# Altium integrated library Wurth_Elektronik_Passive_rev16a.IntLib: 1143 symbols (part 23 of 28)
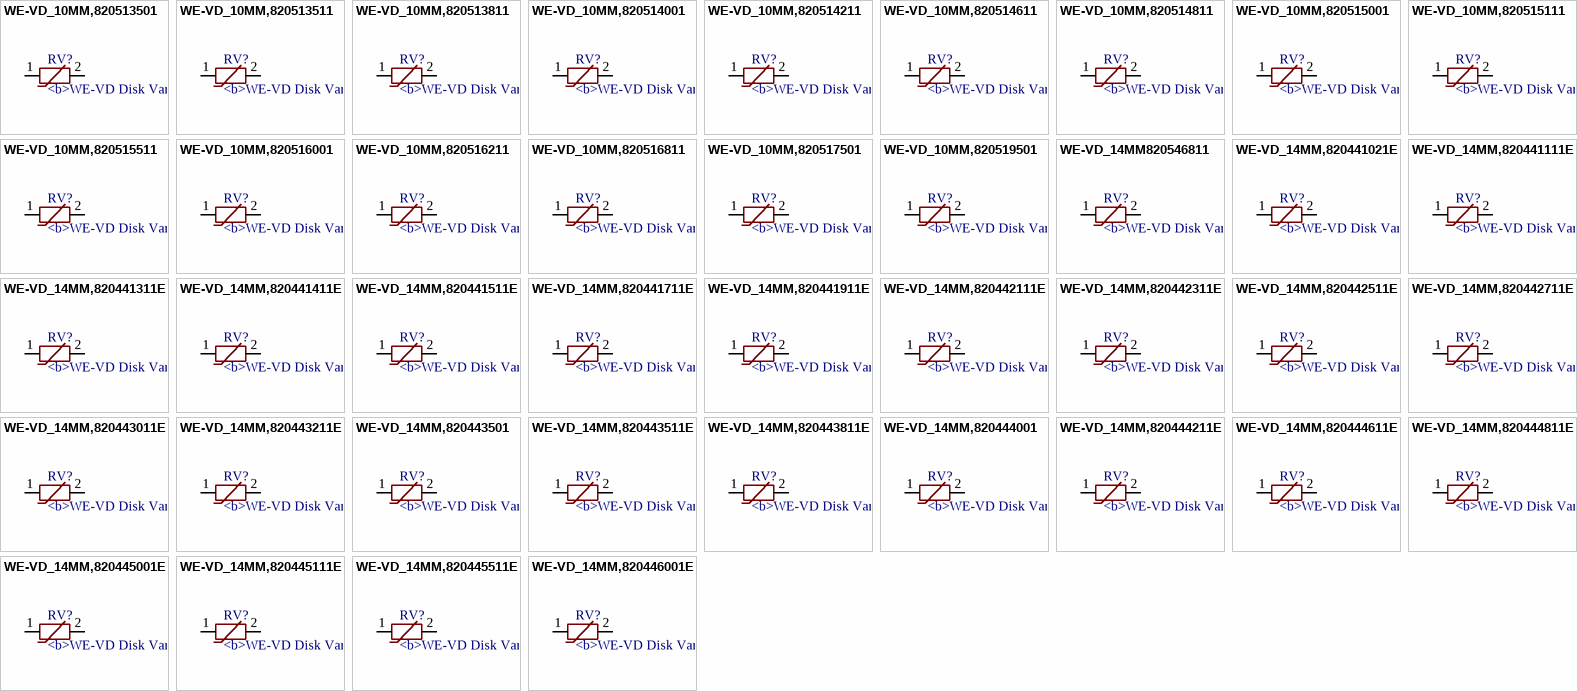
[diagram p80: symbols WE-VD_10MM,820513501 to WE-VD_14MM,820446001E]

## WE-VD_14MM,820441021E
designator RV?, comment <b>WE-VD Disk Varistor / <br> / <br> / <br><b>Characteristics / <br> / <br></b></b> Low clamping voltage / <br> / <br> After a surge impulse the varistor works immediately in normal mode so there is no slip current / <br> / <br> Excellent absorption at surge impulses / <br> / <br> Operating temperature: –40 ºC to +85 ºC for types up to 95 VRMS –40 ºC to +125 ºC for types from 115 VRMS / <br> / <br> Response time < 25 ns / <br> / <br> UL1449 3rd Edition, CSA and VDE approved UL: File E332875 CSA: File 224856 VDE: File 40016986 and 40016998 IEC: 60950-1: 2005 Annex Q from ∅ 10 mm / <br> / <br> / <br><b> Applications / <br> / <br></b> 12–48 VDC distribution / <br> / <br> 110–400 V power supply / <br> / <br> Leakage of voltage peaks / <br> / <br> Surge protection in accordance with EN 61000-4-5 / <br> / <br> / <br> / <br><a href="http://katalog.we-online.de/media/images/eisos/VarVD_pf2.jpg" title="Enlarge picture"> / <img src="http://katalog.we-online.de/media/images/eisos/VarVD_pf2.jpg" width="320"></a><p> / Details see: <a href="http://katalog.we-online.de/en/pbs/WE-VD?">http://katalog.we-online.de/en/pbs/WE-VD?</a><p> / Updated  by  Dan Xu 2014-07-11<br> / 2014 (C) Wurth Elektronik
MANUFACTURER: Würth Elektronik eiSos GmbH; CREATED-BY: Christin Zierenner; COMPANY-URL: http://www.we-online.de; CREATED-DATE: May 2012; DATASHEET-URL: http://katalog.we-online.de/kataloge/eisos/index.php?language=en&pf=WE-VD
footprint WE-VD_14MM-10.2
pins: 1, 2

## WE-VD_14MM,820441111E
designator RV?, comment <b>WE-VD Disk Varistor / <br> / <br> / <br><b>Characteristics / <br> / <br></b></b> Low clamping voltage / <br> / <br> After a surge impulse the varistor works immediately in normal mode so there is no slip current / <br> / <br> Excellent absorption at surge impulses / <br> / <br> Operating temperature: –40 ºC to +85 ºC for types up to 95 VRMS –40 ºC to +125 ºC for types from 115 VRMS / <br> / <br> Response time < 25 ns / <br> / <br> UL1449 3rd Edition, CSA and VDE approved UL: File E332875 CSA: File 224856 VDE: File 40016986 and 40016998 IEC: 60950-1: 2005 Annex Q from ∅ 10 mm / <br> / <br> / <br><b> Applications / <br> / <br></b> 12–48 VDC distribution / <br> / <br> 110–400 V power supply / <br> / <br> Leakage of voltage peaks / <br> / <br> Surge protection in accordance with EN 61000-4-5 / <br> / <br> / <br> / <br><a href="http://katalog.we-online.de/media/images/eisos/VarVD_pf2.jpg" title="Enlarge picture"> / <img src="http://katalog.we-online.de/media/images/eisos/VarVD_pf2.jpg" width="320"></a><p> / Details see: <a href="http://katalog.we-online.de/en/pbs/WE-VD?">http://katalog.we-online.de/en/pbs/WE-VD?</a><p> / Updated  by  Dan Xu 2014-07-11<br> / 2014 (C) Wurth Elektronik
MANUFACTURER: Würth Elektronik eiSos GmbH; CREATED-BY: Christin Zierenner; COMPANY-URL: http://www.we-online.de; CREATED-DATE: May 2012; DATASHEET-URL: http://katalog.we-online.de/kataloge/eisos/index.php?language=en&pf=WE-VD
footprint WE-VD_14MM-DIA
pins: 1, 2

## WE-VD_14MM,820441311E
designator RV?, comment <b>WE-VD Disk Varistor / <br> / <br> / <br><b>Characteristics / <br> / <br></b></b> Low clamping voltage / <br> / <br> After a surge impulse the varistor works immediately in normal mode so there is no slip current / <br> / <br> Excellent absorption at surge impulses / <br> / <br> Operating temperature: –40 ºC to +85 ºC for types up to 95 VRMS –40 ºC to +125 ºC for types from 115 VRMS / <br> / <br> Response time < 25 ns / <br> / <br> UL1449 3rd Edition, CSA and VDE approved UL: File E332875 CSA: File 224856 VDE: File 40016986 and 40016998 IEC: 60950-1: 2005 Annex Q from ∅ 10 mm / <br> / <br> / <br><b> Applications / <br> / <br></b> 12–48 VDC distribution / <br> / <br> 110–400 V power supply / <br> / <br> Leakage of voltage peaks / <br> / <br> Surge protection in accordance with EN 61000-4-5 / <br> / <br> / <br> / <br><a href="http://katalog.we-online.de/media/images/eisos/VarVD_pf2.jpg" title="Enlarge picture"> / <img src="http://katalog.we-online.de/media/images/eisos/VarVD_pf2.jpg" width="320"></a><p> / Details see: <a href="http://katalog.we-online.de/en/pbs/WE-VD?">http://katalog.we-online.de/en/pbs/WE-VD?</a><p> / Updated  by  Dan Xu 2014-07-11<br> / 2014 (C) Wurth Elektronik
MANUFACTURER: Würth Elektronik eiSos GmbH; CREATED-BY: Christin Zierenner; COMPANY-URL: http://www.we-online.de; CREATED-DATE: May 2012; DATASHEET-URL: http://katalog.we-online.de/kataloge/eisos/media/pdf/820441311E.pdf
footprint WE-VD_14MM-DIA
pins: 1, 2

## WE-VD_14MM,820441411E
designator RV?, comment <b>WE-VD Disk Varistor / <br> / <br> / <br><b>Characteristics / <br> / <br></b></b> Low clamping voltage / <br> / <br> After a surge impulse the varistor works immediately in normal mode so there is no slip current / <br> / <br> Excellent absorption at surge impulses / <br> / <br> Operating temperature: –40 ºC to +85 ºC for types up to 95 VRMS –40 ºC to +125 ºC for types from 115 VRMS / <br> / <br> Response time < 25 ns / <br> / <br> UL1449 3rd Edition, CSA and VDE approved UL: File E332875 CSA: File 224856 VDE: File 40016986 and 40016998 IEC: 60950-1: 2005 Annex Q from ∅ 10 mm / <br> / <br> / <br><b> Applications / <br> / <br></b> 12–48 VDC distribution / <br> / <br> 110–400 V power supply / <br> / <br> Leakage of voltage peaks / <br> / <br> Surge protection in accordance with EN 61000-4-5 / <br> / <br> / <br> / <br><a href="http://katalog.we-online.de/media/images/eisos/VarVD_pf2.jpg" title="Enlarge picture"> / <img src="http://katalog.we-online.de/media/images/eisos/VarVD_pf2.jpg" width="320"></a><p> / Details see: <a href="http://katalog.we-online.de/en/pbs/WE-VD?">http://katalog.we-online.de/en/pbs/WE-VD?</a><p> / Updated  by  Dan Xu 2014-07-11<br> / 2014 (C) Wurth Elektronik
MANUFACTURER: Würth Elektronik eiSos GmbH; CREATED-BY: Christin Zierenner; COMPANY-URL: http://www.we-online.de; CREATED-DATE: May 2012; DATASHEET-URL: http://katalog.we-online.de/kataloge/eisos/index.php?language=en&pf=WE-VD
footprint WE-VD_14MM-DIA
pins: 1, 2

## WE-VD_14MM,820441511E
designator RV?, comment <b>WE-VD Disk Varistor / <br> / <br> / <br><b>Characteristics / <br> / <br></b></b> Low clamping voltage / <br> / <br> After a surge impulse the varistor works immediately in normal mode so there is no slip current / <br> / <br> Excellent absorption at surge impulses / <br> / <br> Operating temperature: –40 ºC to +85 ºC for types up to 95 VRMS –40 ºC to +125 ºC for types from 115 VRMS / <br> / <br> Response time < 25 ns / <br> / <br> UL1449 3rd Edition, CSA and VDE approved UL: File E332875 CSA: File 224856 VDE: File 40016986 and 40016998 IEC: 60950-1: 2005 Annex Q from ∅ 10 mm / <br> / <br> / <br><b> Applications / <br> / <br></b> 12–48 VDC distribution / <br> / <br> 110–400 V power supply / <br> / <br> Leakage of voltage peaks / <br> / <br> Surge protection in accordance with EN 61000-4-5 / <br> / <br> / <br> / <br><a href="http://katalog.we-online.de/media/images/eisos/VarVD_pf2.jpg" title="Enlarge picture"> / <img src="http://katalog.we-online.de/media/images/eisos/VarVD_pf2.jpg" width="320"></a><p> / Details see: <a href="http://katalog.we-online.de/en/pbs/WE-VD?">http://katalog.we-online.de/en/pbs/WE-VD?</a><p> / Updated  by  Dan Xu 2014-07-11<br> / 2014 (C) Wurth Elektronik
MANUFACTURER: Würth Elektronik eiSos GmbH; CREATED-BY: Christin Zierenner; COMPANY-URL: http://www.we-online.de; CREATED-DATE: May 2012; DATASHEET-URL: http://katalog.we-online.de/kataloge/eisos/index.php?language=en&pf=WE-VD
footprint WE-VD_14MM-DIA
pins: 1, 2

## WE-VD_14MM,820441711E
designator RV?, comment <b>WE-VD Disk Varistor / <br> / <br> / <br><b>Characteristics / <br> / <br></b></b> Low clamping voltage / <br> / <br> After a surge impulse the varistor works immediately in normal mode so there is no slip current / <br> / <br> Excellent absorption at surge impulses / <br> / <br> Operating temperature: –40 ºC to +85 ºC for types up to 95 VRMS –40 ºC to +125 ºC for types from 115 VRMS / <br> / <br> Response time < 25 ns / <br> / <br> UL1449 3rd Edition, CSA and VDE approved UL: File E332875 CSA: File 224856 VDE: File 40016986 and 40016998 IEC: 60950-1: 2005 Annex Q from ∅ 10 mm / <br> / <br> / <br><b> Applications / <br> / <br></b> 12–48 VDC distribution / <br> / <br> 110–400 V power supply / <br> / <br> Leakage of voltage peaks / <br> / <br> Surge protection in accordance with EN 61000-4-5 / <br> / <br> / <br> / <br><a href="http://katalog.we-online.de/media/images/eisos/VarVD_pf2.jpg" title="Enlarge picture"> / <img src="http://katalog.we-online.de/media/images/eisos/VarVD_pf2.jpg" width="320"></a><p> / Details see: <a href="http://katalog.we-online.de/en/pbs/WE-VD?">http://katalog.we-online.de/en/pbs/WE-VD?</a><p> / Updated  by  Dan Xu 2014-07-11<br> / 2014 (C) Wurth Elektronik
MANUFACTURER: Würth Elektronik eiSos GmbH; CREATED-BY: Christin Zierenner; COMPANY-URL: http://www.we-online.de; CREATED-DATE: May 2012; DATASHEET-URL: http://katalog.we-online.de/kataloge/eisos/index.php?language=en&pf=WE-VD
footprint WE-VD_14MM-DIA
pins: 1, 2

## WE-VD_14MM,820441911E
designator RV?, comment <b>WE-VD Disk Varistor / <br> / <br> / <br><b>Characteristics / <br> / <br></b></b> Low clamping voltage / <br> / <br> After a surge impulse the varistor works immediately in normal mode so there is no slip current / <br> / <br> Excellent absorption at surge impulses / <br> / <br> Operating temperature: –40 ºC to +85 ºC for types up to 95 VRMS –40 ºC to +125 ºC for types from 115 VRMS / <br> / <br> Response time < 25 ns / <br> / <br> UL1449 3rd Edition, CSA and VDE approved UL: File E332875 CSA: File 224856 VDE: File 40016986 and 40016998 IEC: 60950-1: 2005 Annex Q from ∅ 10 mm / <br> / <br> / <br><b> Applications / <br> / <br></b> 12–48 VDC distribution / <br> / <br> 110–400 V power supply / <br> / <br> Leakage of voltage peaks / <br> / <br> Surge protection in accordance with EN 61000-4-5 / <br> / <br> / <br> / <br><a href="http://katalog.we-online.de/media/images/eisos/VarVD_pf2.jpg" title="Enlarge picture"> / <img src="http://katalog.we-online.de/media/images/eisos/VarVD_pf2.jpg" width="320"></a><p> / Details see: <a href="http://katalog.we-online.de/en/pbs/WE-VD?">http://katalog.we-online.de/en/pbs/WE-VD?</a><p> / Updated  by  Dan Xu 2014-07-11<br> / 2014 (C) Wurth Elektronik
MANUFACTURER: Würth Elektronik eiSos GmbH; CREATED-BY: Christin Zierenner; COMPANY-URL: http://www.we-online.de; CREATED-DATE: May 2012; DATASHEET-URL: http://katalog.we-online.de/kataloge/eisos/index.php?language=en&pf=WE-VD
footprint WE-VD_14MM-DIA
pins: 1, 2

## WE-VD_14MM,820442111E
designator RV?, comment <b>WE-VD Disk Varistor / <br> / <br> / <br><b>Characteristics / <br> / <br></b></b> Low clamping voltage / <br> / <br> After a surge impulse the varistor works immediately in normal mode so there is no slip current / <br> / <br> Excellent absorption at surge impulses / <br> / <br> Operating temperature: –40 ºC to +85 ºC for types up to 95 VRMS –40 ºC to +125 ºC for types from 115 VRMS / <br> / <br> Response time < 25 ns / <br> / <br> UL1449 3rd Edition, CSA and VDE approved UL: File E332875 CSA: File 224856 VDE: File 40016986 and 40016998 IEC: 60950-1: 2005 Annex Q from ∅ 10 mm / <br> / <br> / <br><b> Applications / <br> / <br></b> 12–48 VDC distribution / <br> / <br> 110–400 V power supply / <br> / <br> Leakage of voltage peaks / <br> / <br> Surge protection in accordance with EN 61000-4-5 / <br> / <br> / <br> / <br><a href="http://katalog.we-online.de/media/images/eisos/VarVD_pf2.jpg" title="Enlarge picture"> / <img src="http://katalog.we-online.de/media/images/eisos/VarVD_pf2.jpg" width="320"></a><p> / Details see: <a href="http://katalog.we-online.de/en/pbs/WE-VD?">http://katalog.we-online.de/en/pbs/WE-VD?</a><p> / Updated  by  Dan Xu 2014-07-11<br> / 2014 (C) Wurth Elektronik
MANUFACTURER: Würth Elektronik eiSos GmbH; CREATED-BY: Christin Zierenner; COMPANY-URL: http://www.we-online.de; CREATED-DATE: May 2012; DATASHEET-URL: http://katalog.we-online.de/kataloge/eisos/index.php?language=en&pf=WE-VD
footprint WE-VD_14MM-DIA
pins: 1, 2

## WE-VD_14MM,820442311E
designator RV?, comment <b>WE-VD Disk Varistor / <br> / <br> / <br><b>Characteristics / <br> / <br></b></b> Low clamping voltage / <br> / <br> After a surge impulse the varistor works immediately in normal mode so there is no slip current / <br> / <br> Excellent absorption at surge impulses / <br> / <br> Operating temperature: –40 ºC to +85 ºC for types up to 95 VRMS –40 ºC to +125 ºC for types from 115 VRMS / <br> / <br> Response time < 25 ns / <br> / <br> UL1449 3rd Edition, CSA and VDE approved UL: File E332875 CSA: File 224856 VDE: File 40016986 and 40016998 IEC: 60950-1: 2005 Annex Q from ∅ 10 mm / <br> / <br> / <br><b> Applications / <br> / <br></b> 12–48 VDC distribution / <br> / <br> 110–400 V power supply / <br> / <br> Leakage of voltage peaks / <br> / <br> Surge protection in accordance with EN 61000-4-5 / <br> / <br> / <br> / <br><a href="http://katalog.we-online.de/media/images/eisos/VarVD_pf2.jpg" title="Enlarge picture"> / <img src="http://katalog.we-online.de/media/images/eisos/VarVD_pf2.jpg" width="320"></a><p> / Details see: <a href="http://katalog.we-online.de/en/pbs/WE-VD?">http://katalog.we-online.de/en/pbs/WE-VD?</a><p> / Updated  by  Dan Xu 2014-07-11<br> / 2014 (C) Wurth Elektronik
MANUFACTURER: Würth Elektronik eiSos GmbH; CREATED-BY: Christin Zierenner; COMPANY-URL: http://www.we-online.de; CREATED-DATE: May 2012; DATASHEET-URL: http://katalog.we-online.de/kataloge/eisos/index.php?language=en&pf=WE-VD
footprint WE-VD_14MM-0.9
pins: 1, 2

## WE-VD_14MM,820442511E
designator RV?, comment <b>WE-VD Disk Varistor / <br> / <br> / <br><b>Characteristics / <br> / <br></b></b> Low clamping voltage / <br> / <br> After a surge impulse the varistor works immediately in normal mode so there is no slip current / <br> / <br> Excellent absorption at surge impulses / <br> / <br> Operating temperature: –40 ºC to +85 ºC for types up to 95 VRMS –40 ºC to +125 ºC for types from 115 VRMS / <br> / <br> Response time < 25 ns / <br> / <br> UL1449 3rd Edition, CSA and VDE approved UL: File E332875 CSA: File 224856 VDE: File 40016986 and 40016998 IEC: 60950-1: 2005 Annex Q from ∅ 10 mm / <br> / <br> / <br><b> Applications / <br> / <br></b> 12–48 VDC distribution / <br> / <br> 110–400 V power supply / <br> / <br> Leakage of voltage peaks / <br> / <br> Surge protection in accordance with EN 61000-4-5 / <br> / <br> / <br> / <br><a href="http://katalog.we-online.de/media/images/eisos/VarVD_pf2.jpg" title="Enlarge picture"> / <img src="http://katalog.we-online.de/media/images/eisos/VarVD_pf2.jpg" width="320"></a><p> / Details see: <a href="http://katalog.we-online.de/en/pbs/WE-VD?">http://katalog.we-online.de/en/pbs/WE-VD?</a><p> / Updated  by  Dan Xu 2014-07-11<br> / 2014 (C) Wurth Elektronik
MANUFACTURER: Würth Elektronik eiSos GmbH; CREATED-BY: Christin Zierenner; COMPANY-URL: http://www.we-online.de; CREATED-DATE: May 2012; DATASHEET-URL: http://katalog.we-online.de/kataloge/eisos/index.php?language=en&pf=WE-VD
footprint WE-VD_14MM-1.1
pins: 1, 2

## WE-VD_14MM,820442711E
designator RV?, comment <b>WE-VD Disk Varistor / <br> / <br> / <br><b>Characteristics / <br> / <br></b></b> Low clamping voltage / <br> / <br> After a surge impulse the varistor works immediately in normal mode so there is no slip current / <br> / <br> Excellent absorption at surge impulses / <br> / <br> Operating temperature: –40 ºC to +85 ºC for types up to 95 VRMS –40 ºC to +125 ºC for types from 115 VRMS / <br> / <br> Response time < 25 ns / <br> / <br> UL1449 3rd Edition, CSA and VDE approved UL: File E332875 CSA: File 224856 VDE: File 40016986 and 40016998 IEC: 60950-1: 2005 Annex Q from ∅ 10 mm / <br> / <br> / <br><b> Applications / <br> / <br></b> 12–48 VDC distribution / <br> / <br> 110–400 V power supply / <br> / <br> Leakage of voltage peaks / <br> / <br> Surge protection in accordance with EN 61000-4-5 / <br> / <br> / <br> / <br><a href="http://katalog.we-online.de/media/images/eisos/VarVD_pf2.jpg" title="Enlarge picture"> / <img src="http://katalog.we-online.de/media/images/eisos/VarVD_pf2.jpg" width="320"></a><p> / Details see: <a href="http://katalog.we-online.de/en/pbs/WE-VD?">http://katalog.we-online.de/en/pbs/WE-VD?</a><p> / Updated  by  Dan Xu 2014-07-11<br> / 2014 (C) Wurth Elektronik
MANUFACTURER: Würth Elektronik eiSos GmbH; CREATED-BY: Christin Zierenner; COMPANY-URL: http://www.we-online.de; CREATED-DATE: May 2012; DATASHEET-URL: http://katalog.we-online.de/kataloge/eisos/media/pdf/820442711E.pdf
footprint WE-VD_14MM-1.3
pins: 1, 2

## WE-VD_14MM,820443011E
designator RV?, comment <b>WE-VD Disk Varistor / <br> / <br> / <br><b>Characteristics / <br> / <br></b></b> Low clamping voltage / <br> / <br> After a surge impulse the varistor works immediately in normal mode so there is no slip current / <br> / <br> Excellent absorption at surge impulses / <br> / <br> Operating temperature: –40 ºC to +85 ºC for types up to 95 VRMS –40 ºC to +125 ºC for types from 115 VRMS / <br> / <br> Response time < 25 ns / <br> / <br> UL1449 3rd Edition, CSA and VDE approved UL: File E332875 CSA: File 224856 VDE: File 40016986 and 40016998 IEC: 60950-1: 2005 Annex Q from ∅ 10 mm / <br> / <br> / <br><b> Applications / <br> / <br></b> 12–48 VDC distribution / <br> / <br> 110–400 V power supply / <br> / <br> Leakage of voltage peaks / <br> / <br> Surge protection in accordance with EN 61000-4-5 / <br> / <br> / <br> / <br><a href="http://katalog.we-online.de/media/images/eisos/VarVD_pf2.jpg" title="Enlarge picture"> / <img src="http://katalog.we-online.de/media/images/eisos/VarVD_pf2.jpg" width="320"></a><p> / Details see: <a href="http://katalog.we-online.de/en/pbs/WE-VD?">http://katalog.we-online.de/en/pbs/WE-VD?</a><p> / Updated  by  Dan Xu 2014-07-11<br> / 2014 (C) Wurth Elektronik
MANUFACTURER: Würth Elektronik eiSos GmbH; CREATED-BY: Christin Zierenner; COMPANY-URL: http://www.we-online.de; CREATED-DATE: May 2012; DATASHEET-URL: http://katalog.we-online.de/kataloge/eisos/index.php?language=en&pf=WE-VD
footprint WE-VD_14MM-1.5
pins: 1, 2

## WE-VD_14MM,820443211E
designator RV?, comment <b>WE-VD Disk Varistor / <br> / <br> / <br><b>Characteristics / <br> / <br></b></b> Low clamping voltage / <br> / <br> After a surge impulse the varistor works immediately in normal mode so there is no slip current / <br> / <br> Excellent absorption at surge impulses / <br> / <br> Operating temperature: –40 ºC to +85 ºC for types up to 95 VRMS –40 ºC to +125 ºC for types from 115 VRMS / <br> / <br> Response time < 25 ns / <br> / <br> UL1449 3rd Edition, CSA and VDE approved UL: File E332875 CSA: File 224856 VDE: File 40016986 and 40016998 IEC: 60950-1: 2005 Annex Q from ∅ 10 mm / <br> / <br> / <br><b> Applications / <br> / <br></b> 12–48 VDC distribution / <br> / <br> 110–400 V power supply / <br> / <br> Leakage of voltage peaks / <br> / <br> Surge protection in accordance with EN 61000-4-5 / <br> / <br> / <br> / <br><a href="http://katalog.we-online.de/media/images/eisos/VarVD_pf2.jpg" title="Enlarge picture"> / <img src="http://katalog.we-online.de/media/images/eisos/VarVD_pf2.jpg" width="320"></a><p> / Details see: <a href="http://katalog.we-online.de/en/pbs/WE-VD?">http://katalog.we-online.de/en/pbs/WE-VD?</a><p> / Updated  by  Dan Xu 2014-07-11<br> / 2014 (C) Wurth Elektronik
MANUFACTURER: Würth Elektronik eiSos GmbH; CREATED-BY: Christin Zierenner; COMPANY-URL: http://www.we-online.de; CREATED-DATE: May 2012; DATASHEET-URL: http://katalog.we-online.de/kataloge/eisos/media/pdf/820443211E.pdf
footprint WE-VD_14MM-1.6
pins: 1, 2

## WE-VD_14MM,820443501
designator RV?, comment <b>WE-VD Disk Varistor / <br> / <br> / <br><b>Characteristics / <br> / <br></b></b> Low clamping voltage / <br> / <br> After a surge impulse the varistor works immediately in normal mode so there is no slip current / <br> / <br> Excellent absorption at surge impulses / <br> / <br> Operating temperature: –40 ºC to +85 ºC for types up to 95 VRMS –40 ºC to +125 ºC for types from 115 VRMS / <br> / <br> Response time < 25 ns / <br> / <br> UL1449 3rd Edition, CSA and VDE approved UL: File E332875 CSA: File 224856 VDE: File 40016986 and 40016998 IEC: 60950-1: 2005 Annex Q from ∅ 10 mm / <br> / <br> / <br><b> Applications / <br> / <br></b> 12–48 VDC distribution / <br> / <br> 110–400 V power supply / <br> / <br> Leakage of voltage peaks / <br> / <br> Surge protection in accordance with EN 61000-4-5 / <br> / <br> / <br> / <br><a href="http://katalog.we-online.de/media/images/eisos/VarVD_pf2.jpg" title="Enlarge picture"> / <img src="http://katalog.we-online.de/media/images/eisos/VarVD_pf2.jpg" width="320"></a><p> / Details see: <a href="http://katalog.we-online.de/en/pbs/WE-VD?">http://katalog.we-online.de/en/pbs/WE-VD?</a><p> / Updated  by  Dan Xu 2014-07-11<br> / 2014 (C) Wurth Elektronik
MANUFACTURER: Würth Elektronik eiSos GmbH; CREATED-BY: Christin Zierenner; COMPANY-URL: http://www.we-online.de; CREATED-DATE: May 2012; DATASHEET-URL: http://katalog.we-online.de/kataloge/eisos/index.php?language=en&pf=WE-VD
footprint WE-VD_14MM-0.9
pins: 1, 2

## WE-VD_14MM,820443511E
designator RV?, comment <b>WE-VD Disk Varistor / <br> / <br> / <br><b>Characteristics / <br> / <br></b></b> Low clamping voltage / <br> / <br> After a surge impulse the varistor works immediately in normal mode so there is no slip current / <br> / <br> Excellent absorption at surge impulses / <br> / <br> Operating temperature: –40 ºC to +85 ºC for types up to 95 VRMS –40 ºC to +125 ºC for types from 115 VRMS / <br> / <br> Response time < 25 ns / <br> / <br> UL1449 3rd Edition, CSA and VDE approved UL: File E332875 CSA: File 224856 VDE: File 40016986 and 40016998 IEC: 60950-1: 2005 Annex Q from ∅ 10 mm / <br> / <br> / <br><b> Applications / <br> / <br></b> 12–48 VDC distribution / <br> / <br> 110–400 V power supply / <br> / <br> Leakage of voltage peaks / <br> / <br> Surge protection in accordance with EN 61000-4-5 / <br> / <br> / <br> / <br><a href="http://katalog.we-online.de/media/images/eisos/VarVD_pf2.jpg" title="Enlarge picture"> / <img src="http://katalog.we-online.de/media/images/eisos/VarVD_pf2.jpg" width="320"></a><p> / Details see: <a href="http://katalog.we-online.de/en/pbs/WE-VD?">http://katalog.we-online.de/en/pbs/WE-VD?</a><p> / Updated  by  Dan Xu 2014-07-11<br> / 2014 (C) Wurth Elektronik
MANUFACTURER: Würth Elektronik eiSos GmbH; CREATED-BY: Christin Zierenner; COMPANY-URL: http://www.we-online.de; CREATED-DATE: May 2012; DATASHEET-URL: http://katalog.we-online.de/kataloge/eisos/index.php?language=en&pf=WE-VD
footprint WE-VD_14MM-1.9
pins: 1, 2

## WE-VD_14MM,820443811E
designator RV?, comment <b>WE-VD Disk Varistor / <br> / <br> / <br><b>Characteristics / <br> / <br></b></b> Low clamping voltage / <br> / <br> After a surge impulse the varistor works immediately in normal mode so there is no slip current / <br> / <br> Excellent absorption at surge impulses / <br> / <br> Operating temperature: –40 ºC to +85 ºC for types up to 95 VRMS –40 ºC to +125 ºC for types from 115 VRMS / <br> / <br> Response time < 25 ns / <br> / <br> UL1449 3rd Edition, CSA and VDE approved UL: File E332875 CSA: File 224856 VDE: File 40016986 and 40016998 IEC: 60950-1: 2005 Annex Q from ∅ 10 mm / <br> / <br> / <br><b> Applications / <br> / <br></b> 12–48 VDC distribution / <br> / <br> 110–400 V power supply / <br> / <br> Leakage of voltage peaks / <br> / <br> Surge protection in accordance with EN 61000-4-5 / <br> / <br> / <br> / <br><a href="http://katalog.we-online.de/media/images/eisos/VarVD_pf2.jpg" title="Enlarge picture"> / <img src="http://katalog.we-online.de/media/images/eisos/VarVD_pf2.jpg" width="320"></a><p> / Details see: <a href="http://katalog.we-online.de/en/pbs/WE-VD?">http://katalog.we-online.de/en/pbs/WE-VD?</a><p> / Updated  by  Dan Xu 2014-07-11<br> / 2014 (C) Wurth Elektronik
MANUFACTURER: Würth Elektronik eiSos GmbH; CREATED-BY: Christin Zierenner; COMPANY-URL: http://www.we-online.de; CREATED-DATE: May 2012; DATASHEET-URL: http://katalog.we-online.de/kataloge/eisos/index.php?language=en&pf=WE-VD
footprint WE-VD_14MM-2.2
pins: 1, 2

## WE-VD_14MM,820444001
designator RV?, comment <b>WE-VD Disk Varistor / <br> / <br> / <br><b>Characteristics / <br> / <br></b></b> Low clamping voltage / <br> / <br> After a surge impulse the varistor works immediately in normal mode so there is no slip current / <br> / <br> Excellent absorption at surge impulses / <br> / <br> Operating temperature: –40 ºC to +85 ºC for types up to 95 VRMS –40 ºC to +125 ºC for types from 115 VRMS / <br> / <br> Response time < 25 ns / <br> / <br> UL1449 3rd Edition, CSA and VDE approved UL: File E332875 CSA: File 224856 VDE: File 40016986 and 40016998 IEC: 60950-1: 2005 Annex Q from ∅ 10 mm / <br> / <br> / <br><b> Applications / <br> / <br></b> 12–48 VDC distribution / <br> / <br> 110–400 V power supply / <br> / <br> Leakage of voltage peaks / <br> / <br> Surge protection in accordance with EN 61000-4-5 / <br> / <br> / <br> / <br><a href="http://katalog.we-online.de/media/images/eisos/VarVD_pf2.jpg" title="Enlarge picture"> / <img src="http://katalog.we-online.de/media/images/eisos/VarVD_pf2.jpg" width="320"></a><p> / Details see: <a href="http://katalog.we-online.de/en/pbs/WE-VD?">http://katalog.we-online.de/en/pbs/WE-VD?</a><p> / Updated  by  Dan Xu 2014-07-11<br> / 2014 (C) Wurth Elektronik
MANUFACTURER: Würth Elektronik eiSos GmbH; CREATED-BY: Christin Zierenner; COMPANY-URL: http://www.we-online.de; CREATED-DATE: May 2012; DATASHEET-URL: http://katalog.we-online.de/kataloge/eisos/index.php?language=en&pf=WE-VD
footprint WE-VD_14MM-1.3
pins: 1, 2

## WE-VD_14MM,820444211E
designator RV?, comment <b>WE-VD Disk Varistor / <br> / <br> / <br><b>Characteristics / <br> / <br></b></b> Low clamping voltage / <br> / <br> After a surge impulse the varistor works immediately in normal mode so there is no slip current / <br> / <br> Excellent absorption at surge impulses / <br> / <br> Operating temperature: –40 ºC to +85 ºC for types up to 95 VRMS –40 ºC to +125 ºC for types from 115 VRMS / <br> / <br> Response time < 25 ns / <br> / <br> UL1449 3rd Edition, CSA and VDE approved UL: File E332875 CSA: File 224856 VDE: File 40016986 and 40016998 IEC: 60950-1: 2005 Annex Q from ∅ 10 mm / <br> / <br> / <br><b> Applications / <br> / <br></b> 12–48 VDC distribution / <br> / <br> 110–400 V power supply / <br> / <br> Leakage of voltage peaks / <br> / <br> Surge protection in accordance with EN 61000-4-5 / <br> / <br> / <br> / <br><a href="http://katalog.we-online.de/media/images/eisos/VarVD_pf2.jpg" title="Enlarge picture"> / <img src="http://katalog.we-online.de/media/images/eisos/VarVD_pf2.jpg" width="320"></a><p> / Details see: <a href="http://katalog.we-online.de/en/pbs/WE-VD?">http://katalog.we-online.de/en/pbs/WE-VD?</a><p> / Updated  by  Dan Xu 2014-07-11<br> / 2014 (C) Wurth Elektronik
MANUFACTURER: Würth Elektronik eiSos GmbH; CREATED-BY: Christin Zierenner; COMPANY-URL: http://www.we-online.de; CREATED-DATE: May 2012; DATASHEET-URL: http://katalog.we-online.de/kataloge/eisos/media/pdf/820444211E.pdf
footprint WE-VD_14MM-2.5
pins: 1, 2

## WE-VD_14MM,820444611E
designator RV?, comment <b>WE-VD Disk Varistor / <br> / <br> / <br><b>Characteristics / <br> / <br></b></b> Low clamping voltage / <br> / <br> After a surge impulse the varistor works immediately in normal mode so there is no slip current / <br> / <br> Excellent absorption at surge impulses / <br> / <br> Operating temperature: –40 ºC to +85 ºC for types up to 95 VRMS –40 ºC to +125 ºC for types from 115 VRMS / <br> / <br> Response time < 25 ns / <br> / <br> UL1449 3rd Edition, CSA and VDE approved UL: File E332875 CSA: File 224856 VDE: File 40016986 and 40016998 IEC: 60950-1: 2005 Annex Q from ∅ 10 mm / <br> / <br> / <br><b> Applications / <br> / <br></b> 12–48 VDC distribution / <br> / <br> 110–400 V power supply / <br> / <br> Leakage of voltage peaks / <br> / <br> Surge protection in accordance with EN 61000-4-5 / <br> / <br> / <br> / <br><a href="http://katalog.we-online.de/media/images/eisos/VarVD_pf2.jpg" title="Enlarge picture"> / <img src="http://katalog.we-online.de/media/images/eisos/VarVD_pf2.jpg" width="320"></a><p> / Details see: <a href="http://katalog.we-online.de/en/pbs/WE-VD?">http://katalog.we-online.de/en/pbs/WE-VD?</a><p> / Updated  by  Dan Xu 2014-07-11<br> / 2014 (C) Wurth Elektronik
MANUFACTURER: Würth Elektronik eiSos GmbH; CREATED-BY: Christin Zierenner; COMPANY-URL: http://www.we-online.de; CREATED-DATE: May 2012; DATASHEET-URL: http://katalog.we-online.de/kataloge/eisos/media/pdf/820444611E.pdf
footprint WE-VD_14MM-2.8
pins: 1, 2

## WE-VD_14MM,820444811E
designator RV?, comment <b>WE-VD Disk Varistor / <br> / <br> / <br><b>Characteristics / <br> / <br></b></b> Low clamping voltage / <br> / <br> After a surge impulse the varistor works immediately in normal mode so there is no slip current / <br> / <br> Excellent absorption at surge impulses / <br> / <br> Operating temperature: –40 ºC to +85 ºC for types up to 95 VRMS –40 ºC to +125 ºC for types from 115 VRMS / <br> / <br> Response time < 25 ns / <br> / <br> UL1449 3rd Edition, CSA and VDE approved UL: File E332875 CSA: File 224856 VDE: File 40016986 and 40016998 IEC: 60950-1: 2005 Annex Q from ∅ 10 mm / <br> / <br> / <br><b> Applications / <br> / <br></b> 12–48 VDC distribution / <br> / <br> 110–400 V power supply / <br> / <br> Leakage of voltage peaks / <br> / <br> Surge protection in accordance with EN 61000-4-5 / <br> / <br> / <br> / <br><a href="http://katalog.we-online.de/media/images/eisos/VarVD_pf2.jpg" title="Enlarge picture"> / <img src="http://katalog.we-online.de/media/images/eisos/VarVD_pf2.jpg" width="320"></a><p> / Details see: <a href="http://katalog.we-online.de/en/pbs/WE-VD?">http://katalog.we-online.de/en/pbs/WE-VD?</a><p> / Updated  by  Dan Xu 2014-07-11<br> / 2014 (C) Wurth Elektronik
MANUFACTURER: Würth Elektronik eiSos GmbH; CREATED-BY: Christin Zierenner; COMPANY-URL: http://www.we-online.de; CREATED-DATE: May 2012; DATASHEET-URL: http://katalog.we-online.de/kataloge/eisos/index.php?language=en&pf=WE-VD
footprint WE-VD_14MM-2.9
pins: 1, 2

## WE-VD_14MM,820445001E
designator RV?, comment <b>WE-VD Disk Varistor / <br> / <br> / <br><b>Characteristics / <br> / <br></b></b> Low clamping voltage / <br> / <br> After a surge impulse the varistor works immediately in normal mode so there is no slip current / <br> / <br> Excellent absorption at surge impulses / <br> / <br> Operating temperature: –40 ºC to +85 ºC for types up to 95 VRMS –40 ºC to +125 ºC for types from 115 VRMS / <br> / <br> Response time < 25 ns / <br> / <br> UL1449 3rd Edition, CSA and VDE approved UL: File E332875 CSA: File 224856 VDE: File 40016986 and 40016998 IEC: 60950-1: 2005 Annex Q from ∅ 10 mm / <br> / <br> / <br><b> Applications / <br> / <br></b> 12–48 VDC distribution / <br> / <br> 110–400 V power supply / <br> / <br> Leakage of voltage peaks / <br> / <br> Surge protection in accordance with EN 61000-4-5 / <br> / <br> / <br> / <br><a href="http://katalog.we-online.de/media/images/eisos/VarVD_pf2.jpg" title="Enlarge picture"> / <img src="http://katalog.we-online.de/media/images/eisos/VarVD_pf2.jpg" width="320"></a><p> / Details see: <a href="http://katalog.we-online.de/en/pbs/WE-VD?">http://katalog.we-online.de/en/pbs/WE-VD?</a><p> / Updated  by  Dan Xu 2014-07-11<br> / 2014 (C) Wurth Elektronik
MANUFACTURER: Würth Elektronik eiSos GmbH; CREATED-BY: Christin Zierenner; COMPANY-URL: http://www.we-online.de; CREATED-DATE: May 2012; DATASHEET-URL: http://katalog.we-online.de/kataloge/eisos/index.php?language=en&pf=WE-VD
footprint WE-VD_14MM-DIA
pins: 1, 2

## WE-VD_14MM,820445111E
designator RV?, comment <b>WE-VD Disk Varistor / <br> / <br> / <br><b>Characteristics / <br> / <br></b></b> Low clamping voltage / <br> / <br> After a surge impulse the varistor works immediately in normal mode so there is no slip current / <br> / <br> Excellent absorption at surge impulses / <br> / <br> Operating temperature: –40 ºC to +85 ºC for types up to 95 VRMS –40 ºC to +125 ºC for types from 115 VRMS / <br> / <br> Response time < 25 ns / <br> / <br> UL1449 3rd Edition, CSA and VDE approved UL: File E332875 CSA: File 224856 VDE: File 40016986 and 40016998 IEC: 60950-1: 2005 Annex Q from ∅ 10 mm / <br> / <br> / <br><b> Applications / <br> / <br></b> 12–48 VDC distribution / <br> / <br> 110–400 V power supply / <br> / <br> Leakage of voltage peaks / <br> / <br> Surge protection in accordance with EN 61000-4-5 / <br> / <br> / <br> / <br><a href="http://katalog.we-online.de/media/images/eisos/VarVD_pf2.jpg" title="Enlarge picture"> / <img src="http://katalog.we-online.de/media/images/eisos/VarVD_pf2.jpg" width="320"></a><p> / Details see: <a href="http://katalog.we-online.de/en/pbs/WE-VD?">http://katalog.we-online.de/en/pbs/WE-VD?</a><p> / Updated  by  Dan Xu 2014-07-11<br> / 2014 (C) Wurth Elektronik
MANUFACTURER: Würth Elektronik eiSos GmbH; CREATED-BY: Christin Zierenner; COMPANY-URL: http://www.we-online.de; CREATED-DATE: May 2012; DATASHEET-URL: http://katalog.we-online.de/kataloge/eisos/index.php?language=en&pf=WE-VD
footprint WE-VD_14MM-3.1
pins: 1, 2

## WE-VD_14MM,820445511E
designator RV?, comment <b>WE-VD Disk Varistor / <br> / <br> / <br><b>Characteristics / <br> / <br></b></b> Low clamping voltage / <br> / <br> After a surge impulse the varistor works immediately in normal mode so there is no slip current / <br> / <br> Excellent absorption at surge impulses / <br> / <br> Operating temperature: –40 ºC to +85 ºC for types up to 95 VRMS –40 ºC to +125 ºC for types from 115 VRMS / <br> / <br> Response time < 25 ns / <br> / <br> UL1449 3rd Edition, CSA and VDE approved UL: File E332875 CSA: File 224856 VDE: File 40016986 and 40016998 IEC: 60950-1: 2005 Annex Q from ∅ 10 mm / <br> / <br> / <br><b> Applications / <br> / <br></b> 12–48 VDC distribution / <br> / <br> 110–400 V power supply / <br> / <br> Leakage of voltage peaks / <br> / <br> Surge protection in accordance with EN 61000-4-5 / <br> / <br> / <br> / <br><a href="http://katalog.we-online.de/media/images/eisos/VarVD_pf2.jpg" title="Enlarge picture"> / <img src="http://katalog.we-online.de/media/images/eisos/VarVD_pf2.jpg" width="320"></a><p> / Details see: <a href="http://katalog.we-online.de/en/pbs/WE-VD?">http://katalog.we-online.de/en/pbs/WE-VD?</a><p> / Updated  by  Dan Xu 2014-07-11<br> / 2014 (C) Wurth Elektronik
MANUFACTURER: Würth Elektronik eiSos GmbH; CREATED-BY: Christin Zierenner; COMPANY-URL: http://www.we-online.de; CREATED-DATE: May 2012; DATASHEET-URL: http://katalog.we-online.de/kataloge/eisos/media/pdf/820445511E.pdf
footprint WE-VD_14MM-3.6
pins: 1, 2

## WE-VD_14MM,820446001E
designator RV?, comment <b>WE-VD Disk Varistor / <br> / <br> / <br><b>Characteristics / <br> / <br></b></b> Low clamping voltage / <br> / <br> After a surge impulse the varistor works immediately in normal mode so there is no slip current / <br> / <br> Excellent absorption at surge impulses / <br> / <br> Operating temperature: –40 ºC to +85 ºC for types up to 95 VRMS –40 ºC to +125 ºC for types from 115 VRMS / <br> / <br> Response time < 25 ns / <br> / <br> UL1449 3rd Edition, CSA and VDE approved UL: File E332875 CSA: File 224856 VDE: File 40016986 and 40016998 IEC: 60950-1: 2005 Annex Q from ∅ 10 mm / <br> / <br> / <br><b> Applications / <br> / <br></b> 12–48 VDC distribution / <br> / <br> 110–400 V power supply / <br> / <br> Leakage of voltage peaks / <br> / <br> Surge protection in accordance with EN 61000-4-5 / <br> / <br> / <br> / <br><a href="http://katalog.we-online.de/media/images/eisos/VarVD_pf2.jpg" title="Enlarge picture"> / <img src="http://katalog.we-online.de/media/images/eisos/VarVD_pf2.jpg" width="320"></a><p> / Details see: <a href="http://katalog.we-online.de/en/pbs/WE-VD?">http://katalog.we-online.de/en/pbs/WE-VD?</a><p> / Updated  by  Dan Xu 2014-07-11<br> / 2014 (C) Wurth Elektronik
MANUFACTURER: Würth Elektronik eiSos GmbH; CREATED-BY: Christin Zierenner; COMPANY-URL: http://www.we-online.de; CREATED-DATE: May 2012; DATASHEET-URL: http://katalog.we-online.de/kataloge/eisos/index.php?language=en&pf=WE-VD
footprint WE-VD_14MM-DIA
pins: 1, 2

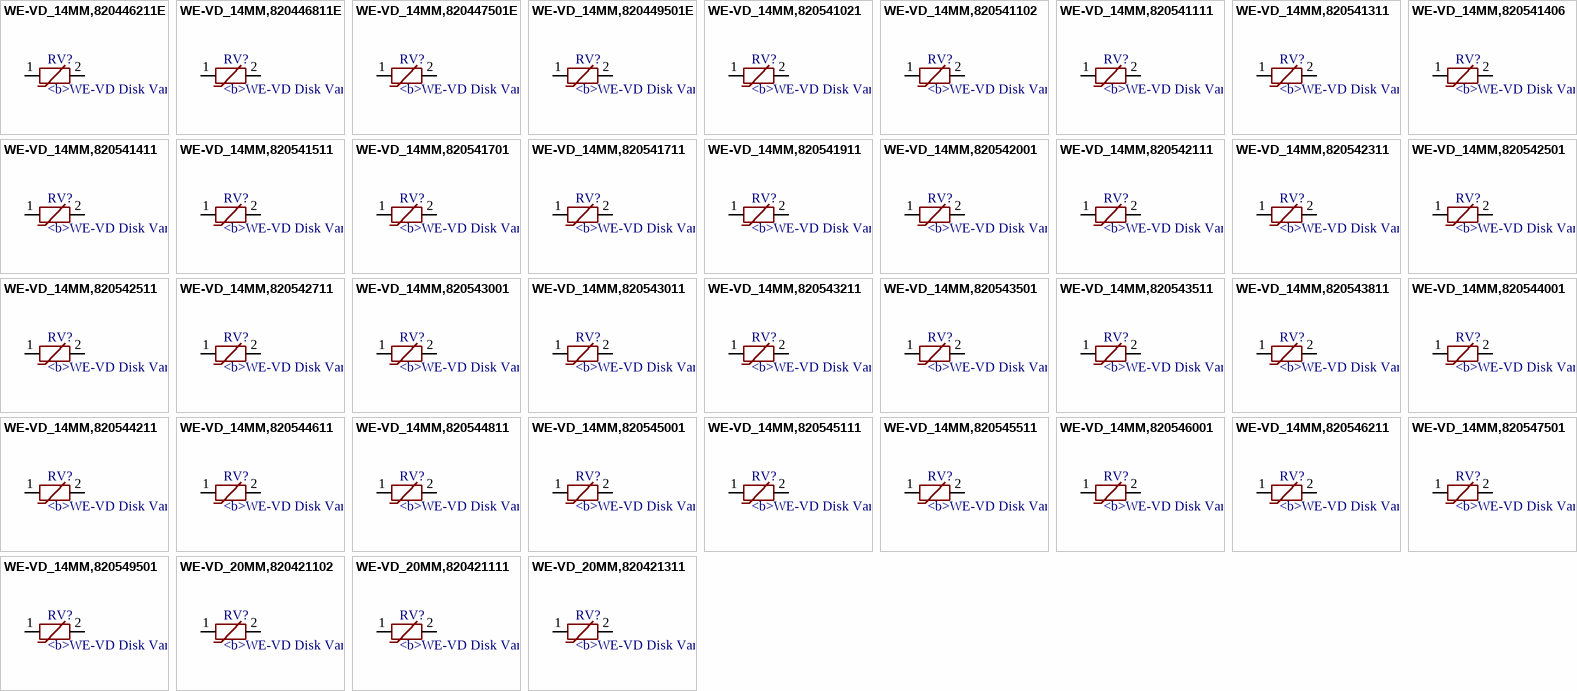
[diagram p54: symbols WE-VD_14MM,820446211E to WE-VD_20MM,820421311]

## WE-VD_14MM,820446211E
designator RV?, comment <b>WE-VD Disk Varistor / <br> / <br> / <br><b>Characteristics / <br> / <br></b></b> Low clamping voltage / <br> / <br> After a surge impulse the varistor works immediately in normal mode so there is no slip current / <br> / <br> Excellent absorption at surge impulses / <br> / <br> Operating temperature: –40 ºC to +85 ºC for types up to 95 VRMS –40 ºC to +125 ºC for types from 115 VRMS / <br> / <br> Response time < 25 ns / <br> / <br> UL1449 3rd Edition, CSA and VDE approved UL: File E332875 CSA: File 224856 VDE: File 40016986 and 40016998 IEC: 60950-1: 2005 Annex Q from ∅ 10 mm / <br> / <br> / <br><b> Applications / <br> / <br></b> 12–48 VDC distribution / <br> / <br> 110–400 V power supply / <br> / <br> Leakage of voltage peaks / <br> / <br> Surge protection in accordance with EN 61000-4-5 / <br> / <br> / <br> / <br><a href="http://katalog.we-online.de/media/images/eisos/VarVD_pf2.jpg" title="Enlarge picture"> / <img src="http://katalog.we-online.de/media/images/eisos/VarVD_pf2.jpg" width="320"></a><p> / Details see: <a href="http://katalog.we-online.de/en/pbs/WE-VD?">http://katalog.we-online.de/en/pbs/WE-VD?</a><p> / Updated  by  Dan Xu 2014-07-11<br> / 2014 (C) Wurth Elektronik
MANUFACTURER: Würth Elektronik eiSos GmbH; CREATED-BY: Christin Zierenner; COMPANY-URL: http://www.we-online.de; CREATED-DATE: May 2012; DATASHEET-URL: http://katalog.we-online.de/kataloge/eisos/media/pdf/820446211E.pdf
footprint WE-VD_14MM-4.0
pins: 1, 2

## WE-VD_14MM,820446811E
designator RV?, comment <b>WE-VD Disk Varistor / <br> / <br> / <br><b>Characteristics / <br> / <br></b></b> Low clamping voltage / <br> / <br> After a surge impulse the varistor works immediately in normal mode so there is no slip current / <br> / <br> Excellent absorption at surge impulses / <br> / <br> Operating temperature: –40 ºC to +85 ºC for types up to 95 VRMS –40 ºC to +125 ºC for types from 115 VRMS / <br> / <br> Response time < 25 ns / <br> / <br> UL1449 3rd Edition, CSA and VDE approved UL: File E332875 CSA: File 224856 VDE: File 40016986 and 40016998 IEC: 60950-1: 2005 Annex Q from ∅ 10 mm / <br> / <br> / <br><b> Applications / <br> / <br></b> 12–48 VDC distribution / <br> / <br> 110–400 V power supply / <br> / <br> Leakage of voltage peaks / <br> / <br> Surge protection in accordance with EN 61000-4-5 / <br> / <br> / <br> / <br><a href="http://katalog.we-online.de/media/images/eisos/VarVD_pf2.jpg" title="Enlarge picture"> / <img src="http://katalog.we-online.de/media/images/eisos/VarVD_pf2.jpg" width="320"></a><p> / Details see: <a href="http://katalog.we-online.de/en/pbs/WE-VD?">http://katalog.we-online.de/en/pbs/WE-VD?</a><p> / Updated  by  Dan Xu 2014-07-11<br> / 2014 (C) Wurth Elektronik
MANUFACTURER: Würth Elektronik eiSos GmbH; CREATED-BY: Christin Zierenner; COMPANY-URL: http://www.we-online.de; CREATED-DATE: May 2012; DATASHEET-URL: http://katalog.we-online.de/kataloge/eisos/index.php?language=en&pf=WE-VD
footprint WE-VD_14MM-4.5
pins: 1, 2

## WE-VD_14MM,820447501E
designator RV?, comment <b>WE-VD Disk Varistor / <br> / <br> / <br><b>Characteristics / <br> / <br></b></b> Low clamping voltage / <br> / <br> After a surge impulse the varistor works immediately in normal mode so there is no slip current / <br> / <br> Excellent absorption at surge impulses / <br> / <br> Operating temperature: –40 ºC to +85 ºC for types up to 95 VRMS –40 ºC to +125 ºC for types from 115 VRMS / <br> / <br> Response time < 25 ns / <br> / <br> UL1449 3rd Edition, CSA and VDE approved UL: File E332875 CSA: File 224856 VDE: File 40016986 and 40016998 IEC: 60950-1: 2005 Annex Q from ∅ 10 mm / <br> / <br> / <br><b> Applications / <br> / <br></b> 12–48 VDC distribution / <br> / <br> 110–400 V power supply / <br> / <br> Leakage of voltage peaks / <br> / <br> Surge protection in accordance with EN 61000-4-5 / <br> / <br> / <br> / <br><a href="http://katalog.we-online.de/media/images/eisos/VarVD_pf2.jpg" title="Enlarge picture"> / <img src="http://katalog.we-online.de/media/images/eisos/VarVD_pf2.jpg" width="320"></a><p> / Details see: <a href="http://katalog.we-online.de/en/pbs/WE-VD?">http://katalog.we-online.de/en/pbs/WE-VD?</a><p> / Updated  by  Dan Xu 2014-07-11<br> / 2014 (C) Wurth Elektronik
MANUFACTURER: Würth Elektronik eiSos GmbH; CREATED-BY: Christin Zierenner; COMPANY-URL: http://www.we-online.de; CREATED-DATE: May 2012; DATASHEET-URL: http://katalog.we-online.de/kataloge/eisos/index.php?language=en&pf=WE-VD
footprint WE-VD_14MM-DIA
pins: 1, 2

## WE-VD_14MM,820449501E
designator RV?, comment <b>WE-VD Disk Varistor / <br> / <br> / <br><b>Characteristics / <br> / <br></b></b> Low clamping voltage / <br> / <br> After a surge impulse the varistor works immediately in normal mode so there is no slip current / <br> / <br> Excellent absorption at surge impulses / <br> / <br> Operating temperature: –40 ºC to +85 ºC for types up to 95 VRMS –40 ºC to +125 ºC for types from 115 VRMS / <br> / <br> Response time < 25 ns / <br> / <br> UL1449 3rd Edition, CSA and VDE approved UL: File E332875 CSA: File 224856 VDE: File 40016986 and 40016998 IEC: 60950-1: 2005 Annex Q from ∅ 10 mm / <br> / <br> / <br><b> Applications / <br> / <br></b> 12–48 VDC distribution / <br> / <br> 110–400 V power supply / <br> / <br> Leakage of voltage peaks / <br> / <br> Surge protection in accordance with EN 61000-4-5 / <br> / <br> / <br> / <br><a href="http://katalog.we-online.de/media/images/eisos/VarVD_pf2.jpg" title="Enlarge picture"> / <img src="http://katalog.we-online.de/media/images/eisos/VarVD_pf2.jpg" width="320"></a><p> / Details see: <a href="http://katalog.we-online.de/en/pbs/WE-VD?">http://katalog.we-online.de/en/pbs/WE-VD?</a><p> / Updated  by  Dan Xu 2014-07-11<br> / 2014 (C) Wurth Elektronik
MANUFACTURER: Würth Elektronik eiSos GmbH; CREATED-BY: Christin Zierenner; COMPANY-URL: http://www.we-online.de; CREATED-DATE: May 2012; DATASHEET-URL: http://katalog.we-online.de/kataloge/eisos/index.php?language=en&pf=WE-VD
footprint WE-VD_14MM-DIA
pins: 1, 2

## WE-VD_14MM,820541021
designator RV?, comment <b>WE-VD Disk Varistor / <br> / <br> / <br><b>Characteristics / <br> / <br></b></b> Low clamping voltage / <br> / <br> After a surge impulse the varistor works immediately in normal mode so there is no slip current / <br> / <br> Excellent absorption at surge impulses / <br> / <br> Operating temperature: –40 ºC to +85 ºC for types up to 95 VRMS –40 ºC to +125 ºC for types from 115 VRMS / <br> / <br> Response time < 25 ns / <br> / <br> UL1449 3rd Edition, CSA and VDE approved UL: File E332875 CSA: File 224856 VDE: File 40016986 and 40016998 IEC: 60950-1: 2005 Annex Q from ∅ 10 mm / <br> / <br> / <br><b> Applications / <br> / <br></b> 12–48 VDC distribution / <br> / <br> 110–400 V power supply / <br> / <br> Leakage of voltage peaks / <br> / <br> Surge protection in accordance with EN 61000-4-5 / <br> / <br> / <br> / <br><a href="http://katalog.we-online.de/media/images/eisos/VarVD_pf2.jpg" title="Enlarge picture"> / <img src="http://katalog.we-online.de/media/images/eisos/VarVD_pf2.jpg" width="320"></a><p> / Details see: <a href="http://katalog.we-online.de/en/pbs/WE-VD?">http://katalog.we-online.de/en/pbs/WE-VD?</a><p> / Updated  by  Dan Xu 2014-07-11<br> / 2014 (C) Wurth Elektronik
MANUFACTURER: Würth Elektronik eiSos GmbH; CREATED-BY: Christin Zierenner; COMPANY-URL: http://www.we-online.de; CREATED-DATE: May 2012; DATASHEET-URL: http://katalog.we-online.de/kataloge/eisos/media/pdf/820541021.pdf
footprint WE-VD_14MM-10.2
pins: 1, 2

## WE-VD_14MM,820541102
designator RV?, comment <b>WE-VD Disk Varistor / <br> / <br> / <br><b>Characteristics / <br> / <br></b></b> Low clamping voltage / <br> / <br> After a surge impulse the varistor works immediately in normal mode so there is no slip current / <br> / <br> Excellent absorption at surge impulses / <br> / <br> Operating temperature: –40 ºC to +85 ºC for types up to 95 VRMS –40 ºC to +125 ºC for types from 115 VRMS / <br> / <br> Response time < 25 ns / <br> / <br> UL1449 3rd Edition, CSA and VDE approved UL: File E332875 CSA: File 224856 VDE: File 40016986 and 40016998 IEC: 60950-1: 2005 Annex Q from ∅ 10 mm / <br> / <br> / <br><b> Applications / <br> / <br></b> 12–48 VDC distribution / <br> / <br> 110–400 V power supply / <br> / <br> Leakage of voltage peaks / <br> / <br> Surge protection in accordance with EN 61000-4-5 / <br> / <br> / <br> / <br><a href="http://katalog.we-online.de/media/images/eisos/VarVD_pf2.jpg" title="Enlarge picture"> / <img src="http://katalog.we-online.de/media/images/eisos/VarVD_pf2.jpg" width="320"></a><p> / Details see: <a href="http://katalog.we-online.de/en/pbs/WE-VD?">http://katalog.we-online.de/en/pbs/WE-VD?</a><p> / Updated  by  Dan Xu 2014-07-11<br> / 2014 (C) Wurth Elektronik
MANUFACTURER: Würth Elektronik eiSos GmbH; CREATED-BY: Christin Zierenner; COMPANY-URL: http://www.we-online.de; CREATED-DATE: May 2012; DATASHEET-URL: http://katalog.we-online.de/kataloge/eisos/index.php?language=en&pf=WE-VD
footprint WE-VD_14MM-DIA
pins: 1, 2

## WE-VD_14MM,820541111
designator RV?, comment <b>WE-VD Disk Varistor / <br> / <br> / <br><b>Characteristics / <br> / <br></b></b> Low clamping voltage / <br> / <br> After a surge impulse the varistor works immediately in normal mode so there is no slip current / <br> / <br> Excellent absorption at surge impulses / <br> / <br> Operating temperature: –40 ºC to +85 ºC for types up to 95 VRMS –40 ºC to +125 ºC for types from 115 VRMS / <br> / <br> Response time < 25 ns / <br> / <br> UL1449 3rd Edition, CSA and VDE approved UL: File E332875 CSA: File 224856 VDE: File 40016986 and 40016998 IEC: 60950-1: 2005 Annex Q from ∅ 10 mm / <br> / <br> / <br><b> Applications / <br> / <br></b> 12–48 VDC distribution / <br> / <br> 110–400 V power supply / <br> / <br> Leakage of voltage peaks / <br> / <br> Surge protection in accordance with EN 61000-4-5 / <br> / <br> / <br> / <br><a href="http://katalog.we-online.de/media/images/eisos/VarVD_pf2.jpg" title="Enlarge picture"> / <img src="http://katalog.we-online.de/media/images/eisos/VarVD_pf2.jpg" width="320"></a><p> / Details see: <a href="http://katalog.we-online.de/en/pbs/WE-VD?">http://katalog.we-online.de/en/pbs/WE-VD?</a><p> / Updated  by  Dan Xu 2014-07-11<br> / 2014 (C) Wurth Elektronik
MANUFACTURER: Würth Elektronik eiSos GmbH; CREATED-BY: Christin Zierenner; COMPANY-URL: http://www.we-online.de; CREATED-DATE: May 2012; DATASHEET-URL: http://katalog.we-online.de/kataloge/eisos/index.php?language=en&pf=WE-VD
footprint WE-VD_14MM-DIA
pins: 1, 2

## WE-VD_14MM,820541311
designator RV?, comment <b>WE-VD Disk Varistor / <br> / <br> / <br><b>Characteristics / <br> / <br></b></b> Low clamping voltage / <br> / <br> After a surge impulse the varistor works immediately in normal mode so there is no slip current / <br> / <br> Excellent absorption at surge impulses / <br> / <br> Operating temperature: –40 ºC to +85 ºC for types up to 95 VRMS –40 ºC to +125 ºC for types from 115 VRMS / <br> / <br> Response time < 25 ns / <br> / <br> UL1449 3rd Edition, CSA and VDE approved UL: File E332875 CSA: File 224856 VDE: File 40016986 and 40016998 IEC: 60950-1: 2005 Annex Q from ∅ 10 mm / <br> / <br> / <br><b> Applications / <br> / <br></b> 12–48 VDC distribution / <br> / <br> 110–400 V power supply / <br> / <br> Leakage of voltage peaks / <br> / <br> Surge protection in accordance with EN 61000-4-5 / <br> / <br> / <br> / <br><a href="http://katalog.we-online.de/media/images/eisos/VarVD_pf2.jpg" title="Enlarge picture"> / <img src="http://katalog.we-online.de/media/images/eisos/VarVD_pf2.jpg" width="320"></a><p> / Details see: <a href="http://katalog.we-online.de/en/pbs/WE-VD?">http://katalog.we-online.de/en/pbs/WE-VD?</a><p> / Updated  by  Dan Xu 2014-07-11<br> / 2014 (C) Wurth Elektronik
MANUFACTURER: Würth Elektronik eiSos GmbH; CREATED-BY: Christin Zierenner; COMPANY-URL: http://www.we-online.de; CREATED-DATE: May 2012; DATASHEET-URL: http://katalog.we-online.de/kataloge/eisos/media/pdf/820541311.pdf
footprint WE-VD_14MM-DIA
pins: 1, 2

## WE-VD_14MM,820541406
designator RV?, comment <b>WE-VD Disk Varistor / <br> / <br> / <br><b>Characteristics / <br> / <br></b></b> Low clamping voltage / <br> / <br> After a surge impulse the varistor works immediately in normal mode so there is no slip current / <br> / <br> Excellent absorption at surge impulses / <br> / <br> Operating temperature: –40 ºC to +85 ºC for types up to 95 VRMS –40 ºC to +125 ºC for types from 115 VRMS / <br> / <br> Response time < 25 ns / <br> / <br> UL1449 3rd Edition, CSA and VDE approved UL: File E332875 CSA: File 224856 VDE: File 40016986 and 40016998 IEC: 60950-1: 2005 Annex Q from ∅ 10 mm / <br> / <br> / <br><b> Applications / <br> / <br></b> 12–48 VDC distribution / <br> / <br> 110–400 V power supply / <br> / <br> Leakage of voltage peaks / <br> / <br> Surge protection in accordance with EN 61000-4-5 / <br> / <br> / <br> / <br><a href="http://katalog.we-online.de/media/images/eisos/VarVD_pf2.jpg" title="Enlarge picture"> / <img src="http://katalog.we-online.de/media/images/eisos/VarVD_pf2.jpg" width="320"></a><p> / Details see: <a href="http://katalog.we-online.de/en/pbs/WE-VD?">http://katalog.we-online.de/en/pbs/WE-VD?</a><p> / Updated  by  Dan Xu 2014-07-11<br> / 2014 (C) Wurth Elektronik
MANUFACTURER: Würth Elektronik eiSos GmbH; CREATED-BY: Christin Zierenner; COMPANY-URL: http://www.we-online.de; CREATED-DATE: May 2012; DATASHEET-URL: http://katalog.we-online.de/kataloge/eisos/media/pdf/820541406.pdf
footprint WE-VD_14MM-DIA
pins: 1, 2